# EAGLE library part HM2112ZNL (library HM2112ZNL)
Audio Transformers / Signal Transformers MDL DUAL XFMR-CMC SMT AEC-Q200 Source: Datasheet <https://productfinder.pulseeng.com/doc_type/WEB301/doc_num/HM2112ZNL/doc_part/HM2112ZNL.pdf>
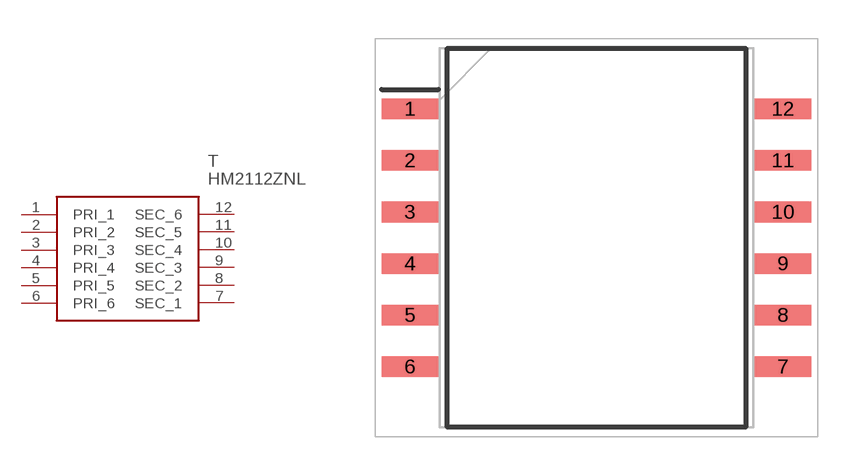
[diagram p0: symbol with the pads of SOP200P1543X320-12N; footprint SOP200P1543X320-12N]

Designator prefix T

## HM2112ZNL (Arrow_Part_Number: HM2112ZNL; Arrow_Price-Stock: https://www.arrow.com/en/products/hm2112znl/pulse-electronics-corporation; Description: Audio Transformers / Signal Transformers MDL DUAL XFMR-CMC SMT AEC-Q200; Height: 3.2mm; Manufacturer_Name: Pulse; Manufacturer_Part_Number: HM2112ZNL; Mouser_Part_Number: 673-HM2112ZNL; Mouser_Price-Stock: https://www.mouser.co.uk/ProductDetail/Pulse-Electronics/HM2112ZNL?qs=chTDxNqvsylLr1OAY8rM9g%3D%3D)  [SOP200P1543X320-12N]
1  PRI_1
2  PRI_2
3  PRI_3
4  PRI_4
5  PRI_5
6  PRI_6
7  SEC_1
8  SEC_2
9  SEC_3
10  SEC_4
11  SEC_5
12  SEC_6

## Footprint SOP200P1543X320-12N (pad centres in mm)
HM2112ZNL-
smd 2.2 x 0.8: 1 -7.225,5; 2 -7.225,3; 3 -7.225,1; 4 -7.225,-1; 5 -7.225,-3; 6 -7.225,-5; 7 7.225,-5; 8 7.225,-3; 9 7.225,-1; 10 7.225,1; 11 7.225,3; 12 7.225,5